# EAGLE library part LP38691?-* (library Regulator)
LP38691 500mA Low Dropout CMOS Linear Regulator
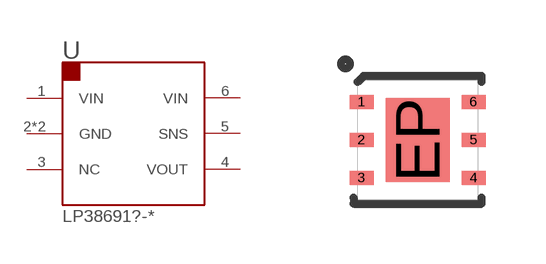
[diagram p2: symbol with the pads of 6-LLP-EP; footprint 6-LLP-EP]

Designator prefix U

## LP38691SD-3.3 (PARTNO: 01-100476-00; VOUT: 3.3v)  [6-LLP-EP]
1  VIN  pwr
2  GND  pwr
3  NC  nc
4  VOUT  pwr
5  SNS  in
6  VIN  pwr
EP  GND  pwr

## Footprint 6-LLP-EP (pad centres in mm)
TI SDE06A
smd 0.6 x 0.35: 1 -1.4,0.95; 2 -1.4,0; 3 -1.4,-0.95; 4 1.4,-0.95; 5 1.4,0; 6 1.4,0.95
smd 1.6 x 2.1: EP 0,0